# EAGLE library part DCW (library dk30a)
3W DC-DC converter - regulated dual output Specifications can be viewed at http://computronics.com.au/meanwell/dcw/
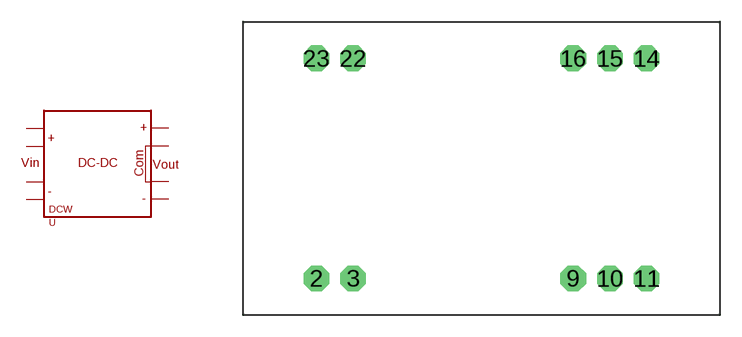
[diagram p6: symbol with the pads of SCW; footprint SCW]

Designator prefix -

## DCW"  [SCW]
2  -VIN1  pwr
3  -VIN2  pwr
9  COM1  pwr
11  -VOUT  pwr
14  +VOUT  pwr
16  COM2  pwr
22  +VIN1  pwr
23  +VIN2  pwr

## Footprint SCW (pad centres in mm)
DC-DC module
drill 0.813 pad 1.778 octagon: 2 -12.7,-7.62; 3 -10.16,-7.62; 9 5.08,-7.62; 10 7.62,-7.62; 11 10.16,-7.62; 14 10.16,7.62; 15 7.62,7.62; 16 5.08,7.62; 22 -10.16,7.62; 23 -12.7,7.62